# EAGLE library part ARDUINO-SHIELD (library IAD-Library)
Standard Arduino Shield
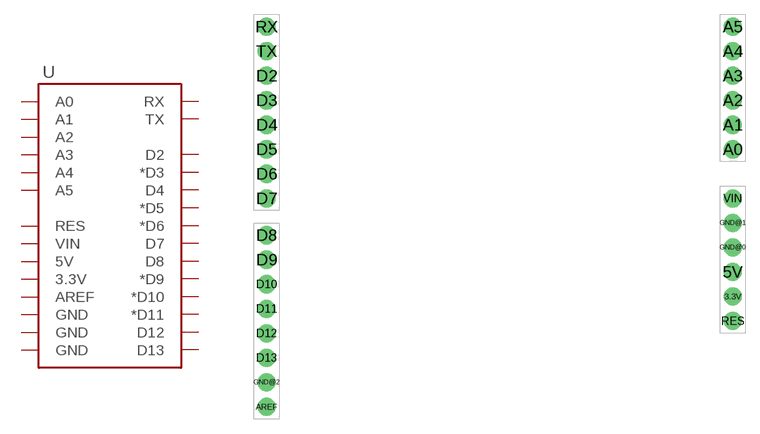
[diagram p1: symbol with the pads of ARDUINO-SHIELD-SMD; footprint ARDUINO-SHIELD-SMD]

Designator prefix -

## ARDUINO-SHIELDA  [ARDUINO-SHIELD-SMD]
3.3V  3.3V
5V  5V
A0  A0
A1  A1
A2  A2
A3  A3
A4  A4
A5  A5
AREF  AREF
D2  D2
D3  *D3
D4  D4
D5  *D5
D6  *D6
D7  D7
D8  D8
D9  *D9
D10  *D10
D11  *D11
D12  D12
D13  D13
GND@0  GND
GND@1  GND
GND@2  GND
RES  RES
RX  RX
TX  TX
VIN  VIN

## Footprint ARDUINO-SHIELD-SMD (pad centres in mm)
This package is best to use with hand made PCB's.
drill 0.508 pad 1.88: 3.3V 24.13,-8.89; 5V 24.13,-6.35; A0 24.13,6.35; A1 24.13,8.89; A2 24.13,11.43; A3 24.13,13.97; A4 24.13,16.51; A5 24.13,19.05; AREF -24.13,-20.32; D2 -24.13,13.97; D3 -24.13,11.43; D4 -24.13,8.89; D5 -24.13,6.35; D6 -24.13,3.81; D7 -24.13,1.27; D8 -24.13,-2.54; D9 -24.13,-5.08; D10 -24.13,-7.62; D11 -24.13,-10.16; D12 -24.13,-12.7; D13 -24.13,-15.24; GND@0 24.13,-3.81; GND@1 24.13,-1.27; GND@2 -24.13,-17.78; RES 24.13,-11.43; RX -24.13,19.05; TX -24.13,16.51; VIN 24.13,1.27